# Altium footprint library flex_Pcb.PcbLib: 2 footprints
Each footprint in its own frame and in the unit in brackets; x right, y up, seen from the top. Pads: shape width x height; smd on the part's side, far side on the other; paste and mask are expansions set on the pad; w line width, h text height; cw(c..) or ccw(c..) is an arc to the next point about the centre after c.
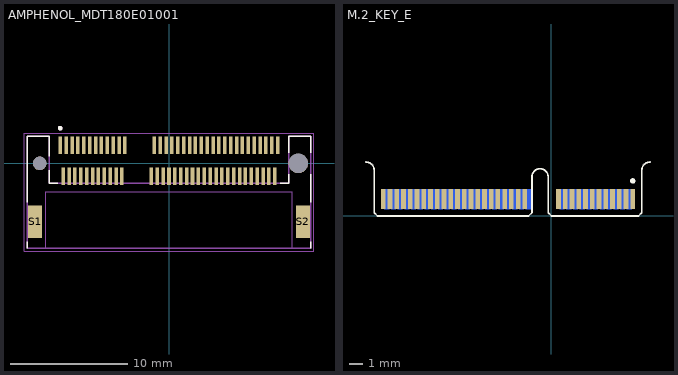
[diagram p0: the footprints below, top view; thin cyan lines are the x and y axes]

## AMPHENOL_MDT180E01001 [mm]
height 2.6
pads (71):
  rect 0.3x1.5 smd: 1(-9.25,1.55) 2(-9,-1.09) 3(-8.75,1.55) 4(-8.5,-1.09) 5(-8.25,1.55) 6(-8,-1.09) 7(-7.75,1.55) 8(-7.5,-1.09) 9(-7.25,1.55) 10(-7,-1.09) 11(-6.75,1.55) 12(-6.5,-1.09) 13(-6.25,1.55) 14(-6,-1.09) 15(-5.75,1.55) 16(-5.5,-1.09) 17(-5.25,1.55) 18(-5,-1.09) 19(-4.75,1.55) 20(-4.5,-1.09) 21(-4.25,1.55) 22(-4,-1.09) 23(-3.75,1.55) 32(-1.5,-1.09) 33(-1.25,1.55) 34(-1,-1.09) 35(-0.75,1.55) 36(-0.5,-1.09) 37(-0.25,1.55) 38(0,-1.09) 39(0.25,1.55) 40(0.5,-1.09) 41(0.75,1.55) 42(1,-1.09) 43(1.25,1.55) 44(1.5,-1.09) 45(1.75,1.55) 46(2,-1.09) 47(2.25,1.55) 48(2.5,-1.09) 49(2.75,1.55) 50(3,-1.09) 51(3.25,1.55) 52(3.5,-1.09) 53(3.75,1.55) 54(4,-1.09) 55(4.25,1.55) 56(4.5,-1.09) 57(4.75,1.55) 58(5,-1.09) 59(5.25,1.55) 60(5.5,-1.09) 61(5.75,1.55) 62(6,-1.09) 63(6.25,1.55) 64(6.5,-1.09) 65(6.75,1.55) 66(7,-1.09) 67(7.25,1.55) 68(7.5,-1.09) 69(7.75,1.55) 70(8,-1.09) 71(8.25,1.55) 72(8.5,-1.09) 73(8.75,1.55) 74(9,-1.09) 75(9.25,1.55)
  rect 1.2x2.75 smd: S1(-11.385,-4.97) S2(11.385,-4.97)
  round 1.15 hole 1.15 unplated: ""(-11,0)
  round 1.65 hole 1.65 unplated: ""(11,0)
Top Overlay:
  circle w0.2: c-9.25,3 r0.1
  lines w0.127: -12.05,-7.2 -12.05,-6.659 ; -12.05,-3.281 -12.05,2.3 -10.2,2.3 -10.2,0.6 ; -10.2,-0.6 -10.2,-1.68 -9.463,-1.68 ; 9.463,-1.68 10.2,-1.68 10.2,-0.9 ; 10.2,0.9 10.2,2.3 12.05,2.3 12.05,0.9 ; 12.05,-7.2 12.05,-6.659 ; 12.05,-3.281 12.05,-0.9
Mechanical 1:
  lines w0: -10.5,-7.2 -10.5,-2.39 10.5,-2.39 10.5,-7.2 -10.5,-7.2
Mechanical 13:
  circle w0.2: c-9.25,3 r0.1
  lines w0.127: -12.05,-7.2 -12.05,2.3 -10.2,2.3 -10.2,-1.68 10.2,-1.68 10.2,2.3 12.05,2.3 12.05,-7.2 -12.05,-7.2
Mechanical 15:
  lines w0.05: -12.3,-7.45 12.3,-7.45 12.3,2.55 -12.3,2.55 -12.3,-7.45
3D body "step_temp.STEP": height 1.75, standoff -0.75, extent -11.95,-7 11.95,2.2

## M.2_KEY_E [mm]
pads (67):
  rect 0.35x1.5 smd: 1(6.025,1.25) 3(5.525,1.25) 5(5.025,1.25) 7(4.525,1.25) 9(4.025,1.25) 11(3.525,1.25) 13(3.025,1.25) 15(2.525,1.25) 17(2.025,1.25) 19(1.525,1.25) 21(1.025,1.25) 23(0.525,1.25) 33(-1.975,1.25) 35(-2.475,1.25) 37(-2.975,1.25) 39(-3.475,1.25) 41(-3.975,1.25) 43(-4.475,1.25) 45(-4.975,1.25) 47(-5.475,1.25) 49(-5.975,1.25) 51(-6.475,1.25) 53(-6.975,1.25) 55(-7.475,1.25) 57(-7.975,1.25) 59(-8.475,1.25) 61(-8.975,1.25) 63(-9.475,1.25) 65(-9.975,1.25) 67(-10.475,1.25) 69(-10.975,1.25) 71(-11.475,1.25) 73(-11.975,1.25) 75(-12.475,1.25)
  rect 0.35x1.5 smd far side: 2(5.775,1.25) 4(5.275,1.25) 6(4.775,1.25) 8(4.275,1.25) 10(3.775,1.25) 12(3.275,1.25) 14(2.775,1.25) 16(2.275,1.25) 18(1.775,1.25) 20(1.275,1.25) 22(0.775,1.25) 32(-1.725,1.25) 34(-2.225,1.25) 36(-2.725,1.25) 38(-3.225,1.25) 40(-3.725,1.25) 42(-4.225,1.25) 44(-4.725,1.25) 46(-5.225,1.25) 48(-5.725,1.25) 50(-6.225,1.25) 52(-6.725,1.25) 54(-7.225,1.25) 56(-7.725,1.25) 58(-8.225,1.25) 60(-8.725,1.25) 62(-9.225,1.25) 64(-9.725,1.25) 66(-10.225,1.25) 68(-10.725,1.25) 70(-11.225,1.25) 72(-11.725,1.25) 74(-12.225,1.25)
Top Overlay:
  circle w0.2: c6.025,2.6 r0.1
  lines w0.127: -13.75,4 cw(c-13.75,3.4) -13.15,3.4 -13.15,0.25 -12.9,0 -1.7,0 -1.45,0.25 -1.45,2.9 cw(c-0.85,2.9) -0.25,2.9 -0.25,0.25 0,0 6.45,0 6.7,0.25 6.7,3.4 cw(c7.3,3.4) 7.3,4